# EAGLE library part MPPT-10-01-01-L-RA-SD (library CONN, Samtec MPPT Hermaphoditic 10 pos - MPPT-10-01-01-L-RA-SD)
Samtec MPPT Connector Right Angle Vertically mating Non-gendered https://www.samtec.com/products/mppt-10-01-01-l-ra-sd
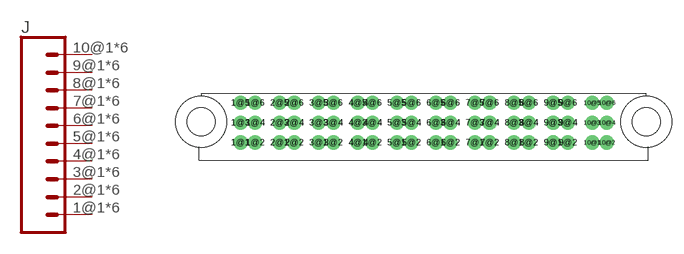
[diagram p0: symbol with the pads of MPPT-10-01-01-L-RA-SD; footprint MPPT-10-01-01-L-RA-SD]

Designator prefix J

## MPPT-10-01-01-L-RA-SD  [MPPT-10-01-01-L-RA-SD]
1@1  1  pas
1@2  1  pas
1@3  1  pas
1@4  1  pas
1@5  1  pas
1@6  1  pas
2@1  2  pas
2@2  2  pas
2@3  2  pas
2@4  2  pas
2@5  2  pas
2@6  2  pas
3@1  3  pas
3@2  3  pas
3@3  3  pas
3@4  3  pas
3@5  3  pas
3@6  3  pas
4@1  4  pas
4@2  4  pas
4@3  4  pas
4@4  4  pas
4@5  4  pas
4@6  4  pas
5@1  5  pas
5@2  5  pas
5@3  5  pas
5@4  5  pas
5@5  5  pas
5@6  5  pas
6@1  6  pas
6@2  6  pas
6@3  6  pas
6@4  6  pas
6@5  6  pas
6@6  6  pas
7@1  7  pas
7@2  7  pas
7@3  7  pas
7@4  7  pas
7@5  7  pas
7@6  7  pas
8@1  8  pas
8@2  8  pas
8@3  8  pas
8@4  8  pas
8@5  8  pas
8@6  8  pas
9@1  9  pas
9@2  9  pas
9@3  9  pas
9@4  9  pas
9@5  9  pas
9@6  9  pas
10@1  10  pas
10@2  10  pas
10@3  10  pas
10@4  10  pas
10@5  10  pas
10@6  10  pas

## Footprint MPPT-10-01-01-L-RA-SD (pad centres in mm)
drill 1.04 pad 1.8: 1@1 -23.44,2.26; 1@2 -21.56,2.26; 1@3 -23.44,4.8; 1@4 -21.56,4.8; 1@5 -23.44,7.34; 1@6 -21.56,7.34; 2@1 -18.44,2.26; 2@2 -16.56,2.26; 2@3 -18.44,4.8; 2@4 -16.56,4.8; 2@5 -18.44,7.34; 2@6 -16.56,7.34; 3@1 -13.44,2.26; 3@2 -11.56,2.26; 3@3 -13.44,4.8; 3@4 -11.56,4.8; 3@5 -13.44,7.34; 3@6 -11.56,7.34; 4@1 -8.44,2.26; 4@2 -6.56,2.26; 4@3 -8.44,4.8; 4@4 -6.56,4.8; 4@5 -8.44,7.34; 4@6 -6.56,7.34; 5@1 -3.44,2.26; 5@2 -1.56,2.26; 5@3 -3.44,4.8; 5@4 -1.56,4.8; 5@5 -3.44,7.34; 5@6 -1.56,7.34; 6@1 1.56,2.26; 6@2 3.44,2.26; 6@3 1.56,4.8; 6@4 3.44,4.8; 6@5 1.56,7.34; 6@6 3.44,7.34; 7@1 6.56,2.26; 7@2 8.44,2.26; 7@3 6.56,4.8; 7@4 8.44,4.8; 7@5 6.56,7.34; 7@6 8.44,7.34; 8@1 11.56,2.26; 8@2 13.44,2.26; 8@3 11.56,4.8; 8@4 13.44,4.8; 8@5 11.56,7.34; 8@6 13.44,7.34; 9@1 16.56,2.26; 9@2 18.44,2.26; 9@3 16.56,4.8; 9@4 18.44,4.8; 9@5 16.56,7.34; 9@6 18.44,7.34; 10@1 21.56,2.26; 10@2 23.44,2.26; 10@3 21.56,4.8; 10@4 23.44,4.8; 10@5 21.56,7.34; 10@6 23.44,7.34
hole 3.6 at 28.5,4.93
hole 3.6 at -28.5,4.93